# Altium footprint library sar20-afbr-s50-adapter.PcbLib: 4 footprints
Each footprint in its own frame and in the unit in brackets; x right, y up, seen from the top. Pads: shape width x height; smd on the part's side, far side on the other; paste and mask are expansions set on the pad; w line width, h text height; cw(c..) or ccw(c..) is an arc to the next point about the centre after c.
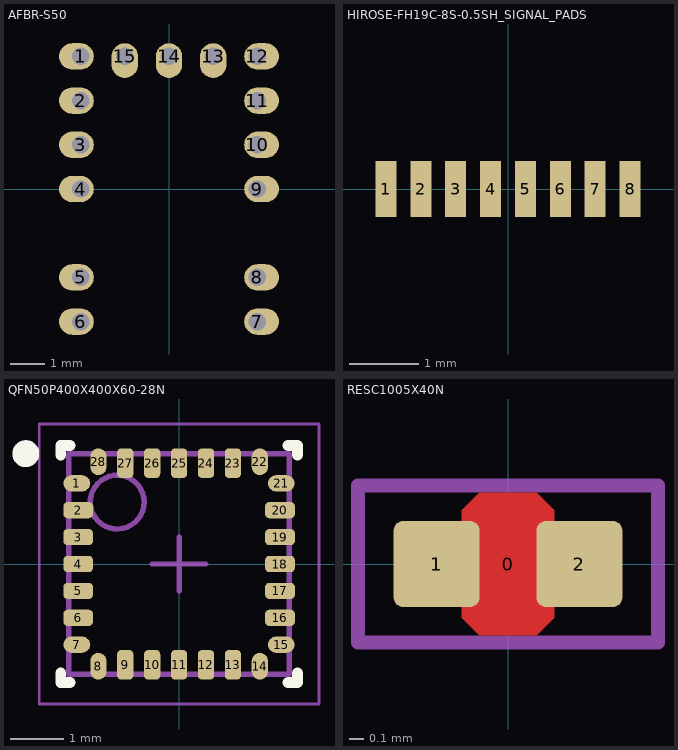
[diagram p0: the footprints below, top view; thin cyan lines are the x and y axes]

## AFBR-S50 [mm] "AFBR-S50"
pads (15):
  oval 1x0.76 hole 0.5 copper offset -0.12,0: 1(-2.54,3.81) 2(-2.54,2.54) 3(-2.54,1.27) 4(-2.54,0) 5(-2.54,-2.54) 6(-2.54,-3.81)
  oval 1x0.76 hole 0.5 copper offset 0.12,0: 7(2.54,-3.81) 8(2.54,-2.54) 9(2.54,0) 10(2.54,1.27) 11(2.54,2.54) 12(2.54,3.81)
  oval 0.76x1 hole 0.5 copper offset 0,-0.12: 13(1.27,3.81) 14(0,3.81) 15(-1.27,3.81)
3D body "AFBR-S50LV85D_w_FOV.stp": height 19.84, standoff -4.29, extent -6.962,-8.074 6.962,7.67

## HIROSE-FH19C-8S-0.5SH_SIGNAL_PADS [mm]
pads (8):
  rect 0.3x0.8 smd paste+0 mask+0.102: 1(-1.75,0) 2(-1.25,0) 3(-0.75,0) 4(-0.25,0) 5(0.25,0) 6(0.75,0) 7(1.25,0) 8(1.75,0)

## QFN50P400X400X60-28N [mm] "QFN, 28-Leads, Body 4,00x4,00mm, Pitch 0,50mm, IPC Medium Density"
height 0.6
pads (28):
  oval 0.5x0.3 smd: 1(-1.9,1.5) 7(-1.9,-1.5) 15(1.9,-1.5) 21(1.9,1.5)
  rrect50% 0.55x0.3 smd: 2(-1.875,1) 3(-1.875,0.5) 4(-1.875,0) 5(-1.875,-0.5) 6(-1.875,-1) 16(1.875,-1) 17(1.875,-0.5) 18(1.875,0) 19(1.875,0.5) 20(1.875,1)
  oval 0.3x0.5 smd: 8(-1.5,-1.9) 14(1.5,-1.9) 22(1.5,1.9) 28(-1.5,1.9)
  rrect50% 0.3x0.55 smd: 9(-1,-1.875) 10(-0.5,-1.875) 11(0,-1.875) 12(0.5,-1.875) 13(1,-1.875) 23(1,1.875) 24(0.5,1.875) 25(0,1.875) 26(-0.5,1.875) 27(-1,1.875)
Top Overlay:
  circle w0.25: c-2.85,2.05 r0.125
  lines w0.2: -2.2,-2.025 -2.2,-2.2 -2.025,-2.2 ; -2.2,2.025 -2.2,2.2 -2.025,2.2 ; 2.025,-2.2 2.2,-2.2 2.2,-2.025 ; 2.025,2.2 2.2,2.2 2.2,2.025
Top 3D Body (Mech13):
  circle w0.1: c-1.15,1.15 r0.5
  lines w0.1: -2.05,-2.05 2.05,-2.05 2.05,2.05 -2.05,2.05 -2.05,-2.05
Mechanical 15:
  lines w0.05: -2.6,-2.6 2.6,-2.6 2.6,2.6 -2.6,2.6 -2.6,-2.6
  lines w0.1: -0.5,0 0.5,0 ; 0,-0.5 0,0.5
3D body "QFN50P400X400X60-28N.step": height 0.6, standoff 0, extent -2.051,-2.051 2.051,2.051

## RESC1005X40N [mm] "Chip Resistor, Body 1.0x0.5mm, EIA 0402, IPC Medium Density"
height 0.4
pads (3):
  round 0.2 on Mech15: 0(0,0)
  rrect20% 0.6x0.6 smd: 1(-0.5,0) 2(0.5,0)
Top Layer:
  pour cut-out: -0.325,0.375 -0.2,0.5 0.2,0.5 0.325,0.375 0.325,-0.375 0.2,-0.5 -0.2,-0.5 -0.325,-0.375
Top 3D Body (Mech13):
  lines w0.05: 0.225,-0.274 -0.225,-0.274 0.225,-0.274 ; -0.525,-0.275 -0.525,0.275 -0.225,0.275 -0.225,-0.275 -0.525,-0.275 ; -0.225,0.274 0.225,0.274 -0.225,0.274 ; 0.225,-0.275 0.525,-0.275 0.525,0.275 0.225,0.275 0.225,-0.275
Mechanical 15:
  lines w0.1: -1.05,-0.55 -1.05,0.55 1.05,0.55 1.05,-0.55 -1.05,-0.55
3D body "RES 0402 (1005 metric).STEP": height 0.4, standoff 0, extent -0.525,-0.275 0.525,0.275